# EAGLE library part SI4730-D60-GUR (library SI4730-D60-GUR)
RF Receiver AM/FM/LW/SW 3.3V/5V Automotive 24-Pin SSOP T/R Source: Datasheet <https://www.silabs.com/documents/public/data-sheets/Si4730-31-34-35-D60.pdf>
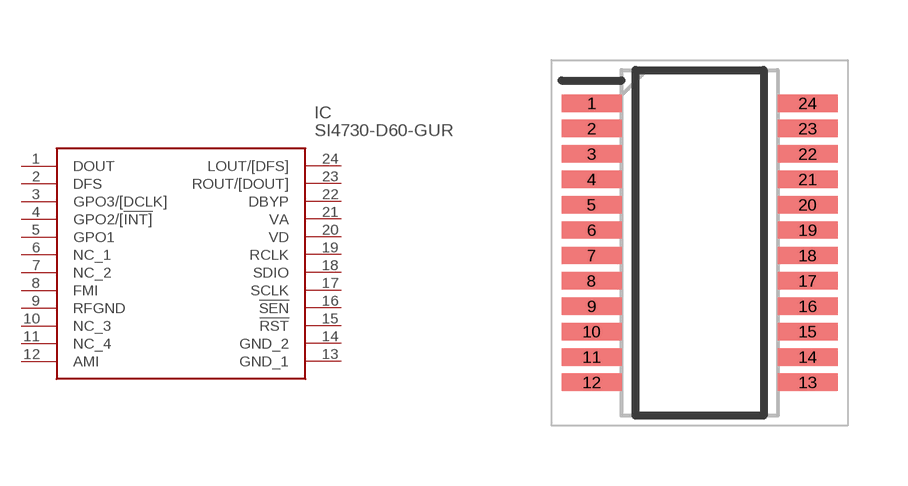
[diagram p0: symbol with the pads of SOP64P600X200-24N; footprint SOP64P600X200-24N]

Designator prefix IC

## SI4730-D60-GUR (Arrow_Part_Number: SI4730-D60-GUR; Arrow_Price-Stock: https://www.arrow.com/en/products/si4730-d60-gur/silicon-labs; Description: RF Receiver AM/FM/LW/SW 3.3V/5V Automotive 24-Pin SSOP T/R; Height: 2mm; Manufacturer_Name: Silicon Labs; Manufacturer_Part_Number: SI4730-D60-GUR; Mouser_Part_Number: N/A; Mouser_Price-Stock: https://www.mouser.com/Search/Refine.aspx?Keyword=N%2FA)  [SOP64P600X200-24N]
1  DOUT
2  DFS
3  GPO3/[DCLK]
4  GPO2/[!INT]
5  GPO1
6  NC_1
7  NC_2
8  FMI
9  RFGND
10  NC_3
11  NC_4
12  AMI
13  GND_1
14  GND_2
15  !RST
16  !SEN
17  SCLK
18  SDIO
19  RCLK
20  VD
21  VA
22  DBYP
23  ROUT/[DOUT]
24  LOUT/[DFS]

## Footprint SOP64P600X200-24N (pad centres in mm)
Si473x-D60 SSOP+
smd 1.5 x 0.435: 1 -2.7,3.492; 2 -2.7,2.858; 3 -2.7,2.222; 4 -2.7,1.588; 5 -2.7,0.952; 6 -2.7,0.318; 7 -2.7,-0.318; 8 -2.7,-0.952; 9 -2.7,-1.588; 10 -2.7,-2.222; 11 -2.7,-2.858; 12 -2.7,-3.492; 13 2.7,-3.492; 14 2.7,-2.858; 15 2.7,-2.222; 16 2.7,-1.588; 17 2.7,-0.952; 18 2.7,-0.318; 19 2.7,0.318; 20 2.7,0.952; 21 2.7,1.588; 22 2.7,2.222; 23 2.7,2.858; 24 2.7,3.492